# Altium footprint library 6030.PcbLib: 1 footprints
Each footprint in its own frame and in the unit in brackets; x right, y up, seen from the top. Pads: shape width x height; smd on the part's side, far side on the other; paste and mask are expansions set on the pad; w line width, h text height; cw(c..) or ccw(c..) is an arc to the next point about the centre after c.
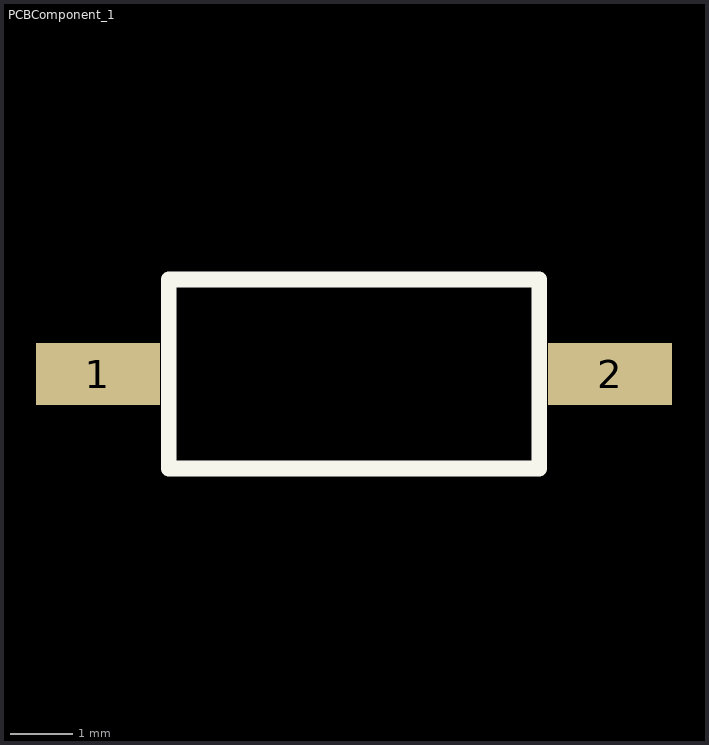
[diagram p0: the footprint, top view; thin cyan lines are the x and y axes]

## PCBComponent_1 [mm]
pads (2):
  rect 2x1 smd: 1(-1259.332,-1256.284) 2(-1251.077,-1256.284)
Top Overlay:
  lines w0.254: -1258.189,-1257.808 -1252.22,-1257.808 -1252.22,-1254.76 -1258.189,-1254.76 -1258.189,-1257.808